# EAGLE library part PCA9615 (library test_lib)
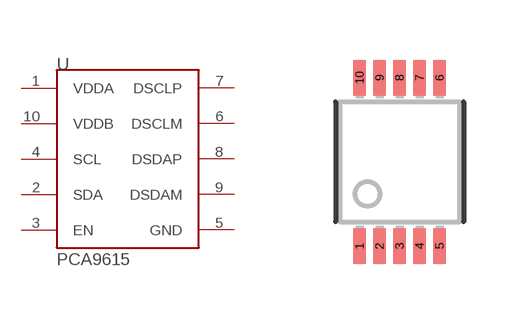
[diagram p1: symbol with the pads of MSOP_10; footprint MSOP_10]

Designator prefix -

## PCA9615  [MSOP_10]
1  VDDA
2  SDA
3  EN
4  SCL
5  GND
6  DSCLM
7  DSCLP
8  DSDAP
9  DSDAM
10  VDDB

## Footprint MSOP_10 (pad centres in mm)
smd 0.305 x 0.889: 1 -1,-2.11; 2 -0.5,-2.11; 3 0,-2.11; 4 0.5,-2.11; 5 1,-2.11; 6 1,2.11; 7 0.5,2.11; 8 0,2.11; 9 -0.5,2.11; 10 -1,2.11